# Altium footprint library PcbLib1_2019.2.10.PcbLib: 87 footprints (part 6 of 6)
Each footprint in its own frame and in the unit in brackets; x right, y up, seen from the top. Pads: shape width x height; smd on the part's side, far side on the other; paste and mask are expansions set on the pad; w line width, h text height; cw(c..) or ccw(c..) is an arc to the next point about the centre after c.
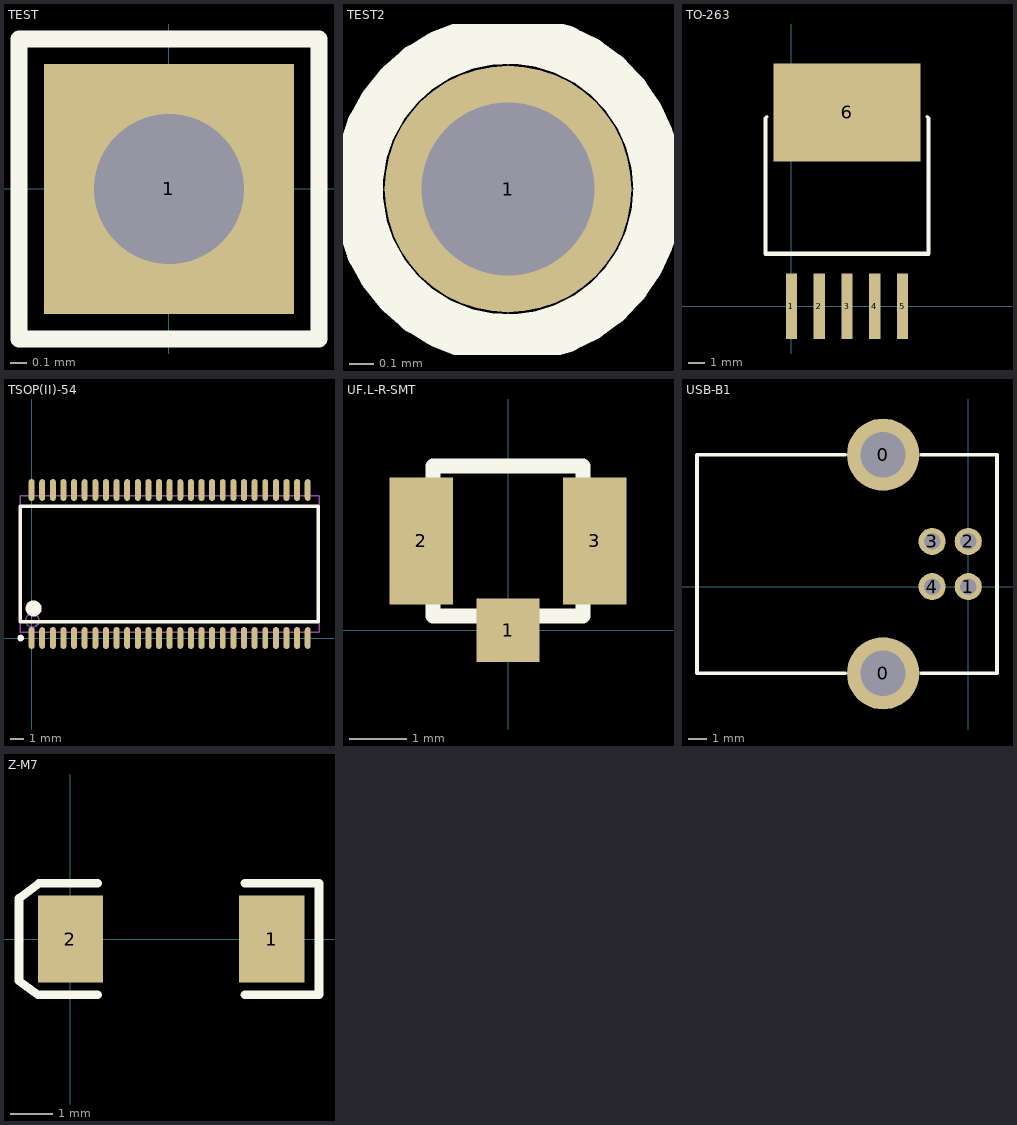
[diagram p5: the footprints below, top view; thin cyan lines are the x and y axes]

## TEST [mm]
pads (1):
  rect 1.5x1.5 hole 0.9: 1(0,0)
Top Overlay:
  lines w0.1: -0.9,-0.9 0.9,-0.9 0.9,0.9 -0.9,0.9 -0.9,-0.9

## TEST2 [mm]
pads (1):
  round 1 hole 0.7: 1(0,0)
Top Overlay:
  circle w0.2: c0,0 r0.608

## TO-263 [mm]
pads (6):
  rect 0.7x4 smd: 1(0,0) 2(1.7,0) 3(3.4,0) 4(5.1,0) 5(6.8,0)
  rect 9x6 smd: 6(3.4,11.868)
Top Overlay:
  lines w0.2: -1.5,11.6 -1.6,11.5 ; 8.3,11.6 8.4,11.5 ; -1.6,11.5 -1.6,11.5 ; 8.4,11.5 8.4,11.5
  lines w0.254: -1.6,11.5 -1.6,3.22 8.4,3.22 8.4,11.5

## TSOP(II)-54 [mm]
pads (54):
  oval 0.45x1.65 smd: 1(0,0) 2(0.8,0) 3(1.6,0) 4(2.4,0) 5(3.2,0) 6(4,0) 7(4.8,0) 8(5.6,0) 9(6.4,0) 10(7.2,0) 11(8,0) 12(8.8,0) 13(9.6,0) 14(10.4,0) 15(11.2,0) 16(12,0) 17(12.8,0) 18(13.6,0) 19(14.4,0) 20(15.2,0) 21(16,0) 22(16.8,0) 23(17.6,0) 24(18.4,0) 25(19.2,0) 26(20,0) 27(20.8,0) 28(20.8,11.15) 29(20,11.15) 30(19.2,11.15) 31(18.4,11.15) 32(17.6,11.15) 33(16.8,11.15) 34(16,11.15) 35(15.2,11.15) 36(14.4,11.15) 37(13.6,11.15) 38(12.8,11.15) 39(12,11.15) 40(11.2,11.15) 41(10.4,11.15) 42(9.6,11.15) 43(8.8,11.15) 44(8,11.15) 45(7.2,11.15) 46(6.4,11.15) 47(5.6,11.15) 48(4.8,11.15) 49(4,11.15) 50(3.2,11.15) 51(2.4,11.15) 52(1.6,11.15) 53(0.8,11.15) 54(0,11.15)
Top Overlay:
  circle w0.25: c-0.825,0 r0.125
  circle w0.6: c0.15,2.225 r0.3
  lines w0.254: -0.85,1.225 21.6,1.225 21.6,9.925 -0.85,9.925 -0.85,1.225
Mechanical 13:
  circle w0.1: c0.05,1.325 r0.5
  lines w0.1: -0.85,0.425 21.65,0.425 21.65,10.725 -0.85,10.725 -0.85,0.425

## UF.L-R-SMT [mm]
pads (3):
  rect 1.1x1.1 smd: 1(0,0)
  rect 1.1x2.2 smd: 2(-1.5,1.55) 3(1.5,1.55)
Top Overlay:
  lines w0.254: -1.3,0.25 -1.3,2.85 1.3,2.85 1.3,0.25 -1.3,0.25

## USB-B1 [mm]
pads (6):
  round 4 hole 2.5: 0(-4.71,-4.8) 0(-4.71,7.3)
  round 1.5 hole 0.92: 1(0,0) 2(0,2.5) 3(-2,2.5) 4(-2,0)
Top Overlay:
  lines w0.2: -6.8,-4.8 -15.01,-4.8 -15.01,7.3 -6.8,7.3 ; -2.6,-4.8 1.59,-4.8 1.59,7.3 -2.6,7.3

## Z-M7 [mil]
pads (2):
  rect 60x80 smd: 1(185,0) 2(0,0)
Top Overlay:
  lines w7.87: 25,-51.18 -30.18,-51.18 -47.24,-38.39 -47.24,37.4 -28.87,51.18 25,51.18 ; 160,-51.18 228.35,-51.18 228.35,51.18 160,51.18